# Altium schematic symbol library 2T3117A_PK OSM.Schlib: 1 symbol
Pins are listed as number, name and electrical type; pins without a type are passive.

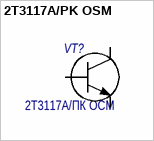
[diagram p0: symbol 2T3117A/PK OSM]

## 2T3117A/PK OSM
designator VT?  Наименование: 2Т3117А/ПК ОСМ  (hidden comment: 2T3117A/PK OSM)
Назначение: Транзистор
footprint 2Д3117А
footprint KT-1-7
pins: 1 EMMITOR, 2 BASE, 3 KOLLECTOR